# Altium schematic symbol library Transistor_NPN.SchLib: 4 symbols
Pins are listed as number, name and electrical type; pins without a type are passive.

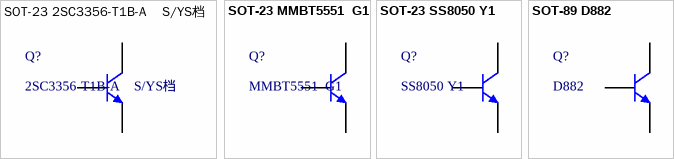
[diagram p0: symbols SOT-23 2SC3356-T1B-A    S/YS档 to SOT-89 D882]

## SOT-23 2SC3356-T1B-A    S/YS档
designator Q?, comment 2SC3356-T1B-A    S/YS档
三极管; ComponentLink1Description: 供应商链接; ComponentLink1URL: http://www.szlcsc.com/product/details_10189.html; Package: SOT-23; Supplier: LC; SuppliersPartNumber: C9659
footprint SOT-23(SOT-23-3)
pins: 1 B, 2 E, 3 C

## SOT-23 MMBT5551  G1
designator Q?, comment MMBT5551  G1
三极管; ComponentLink1Description: 供应商链接; ComponentLink1URL: http://www.szlcsc.com/product/details_2502.html; Package: SOT-23; Supplier: LC; SuppliersPartNumber: C2145
footprint SOT-23(SOT-23-3)
pins: 1 B, 2 E, 3 C

## SOT-23 SS8050 Y1
designator Q?, comment SS8050 Y1
三极管; ComponentLink1Description: 供应商链接; ComponentLink1URL: http://www.szlcsc.com/product/details_2507.html; Package: SOT-23; Supplier: LC; SuppliersPartNumber: C2150
footprint SOT-23(SOT-23-3)
pins: 1 B, 2 E, 3 C

## SOT-89 D882
designator Q?, comment D882
三极管; ComponentLink1Description: 供应商链接; ComponentLink1URL: http://www.szlcsc.com/product/details_10164.html; Package: SOT-89; Supplier: LC; SuppliersPartNumber: C9634
footprint SOT-89(SOT-89-3)
pins: 1 B, 2 C, 3 E